# Altium footprint library PCBLibSynthe.PcbLib: 30 footprints (part 2 of 2)
Each footprint in its own frame and in the unit in brackets; x right, y up, seen from the top. Pads: shape width x height; smd on the part's side, far side on the other; paste and mask are expansions set on the pad; w line width, h text height; cw(c..) or ccw(c..) is an arc to the next point about the centre after c.
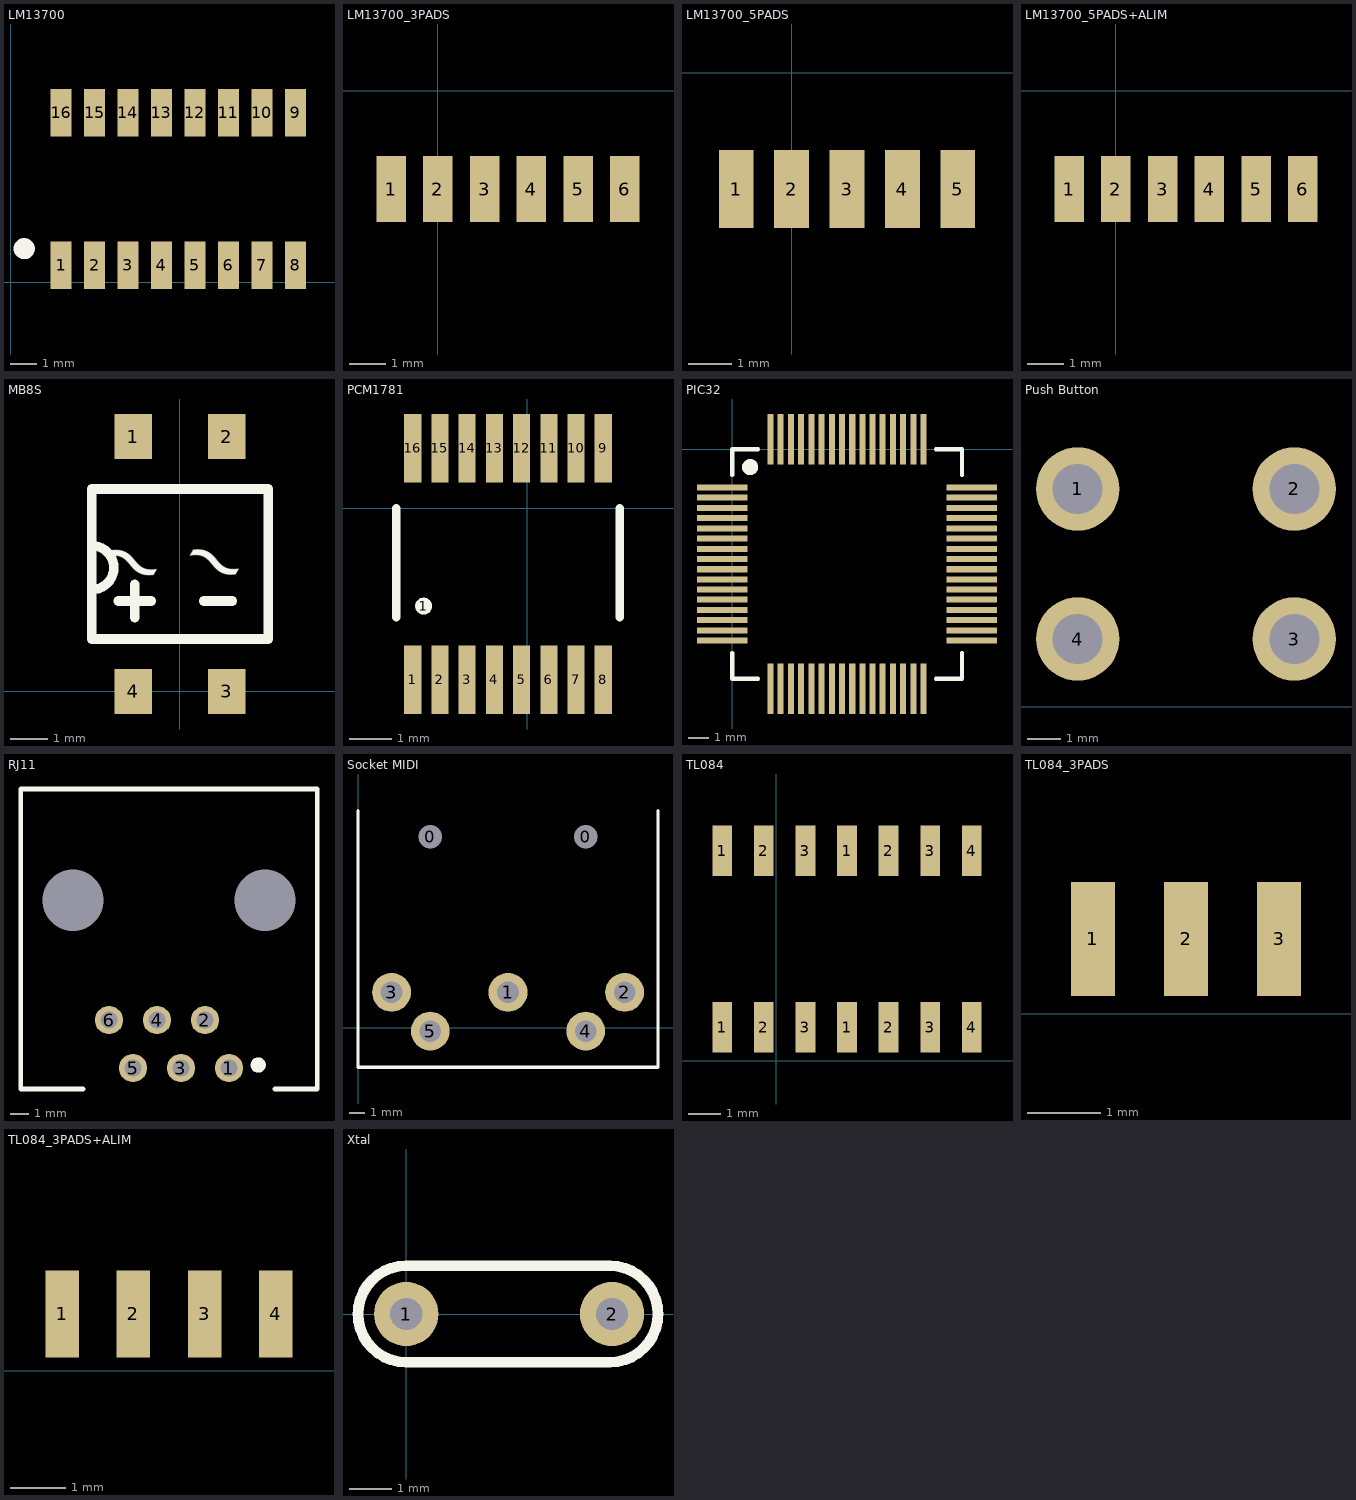
[diagram p1: the footprints below, top view; thin cyan lines are the x and y axes]

## LM13700 [mm]
pads (16):
  rect 0.8x1.8 smd: 1(1.905,0.635) 2(3.175,0.635) 3(4.445,0.635) 4(5.715,0.635) 5(6.985,0.635) 6(8.255,0.635) 7(9.525,0.635) 8(10.795,0.635) 9(10.795,6.435) 10(9.525,6.435) 11(8.255,6.435) 12(6.985,6.435) 13(5.715,6.435) 14(4.445,6.435) 15(3.175,6.435) 16(1.905,6.435)
Top Overlay:
  circle w0.4: c0.508,1.27 r0.2

## LM13700_3PADS [mm]
pads (6):
  rect 0.8x1.8 smd: 1(-1.27,-2.667) 2(0,-2.667) 3(1.27,-2.667) 4(2.54,-2.667) 5(3.81,-2.667) 6(5.08,-2.667)

## LM13700_5PADS [mm]
pads (5):
  rect 0.8x1.8 smd: 1(-1.27,-2.667) 2(0,-2.667) 3(1.27,-2.667) 4(2.54,-2.667) 5(3.81,-2.667)

## LM13700_5PADS+ALIM [mm]
pads (6):
  rect 0.8x1.8 smd: 1(-1.27,-2.667) 2(0,-2.667) 3(1.27,-2.667) 4(2.54,-2.667) 5(3.81,-2.667) 6(5.08,-2.667)

## MB8S [mm]
pads (4):
  rect 1x1.2 smd: 1(-1.25,6.8) 2(1.25,6.8) 3(1.25,0) 4(-1.25,0)
Top Overlay:
  lines w0.254: -2.35,2.716 ccw(c-2.35,3.302) -1.764,3.302 ccw(c-2.35,3.302) -2.35,3.888 ; -1.651,2.413 -0.762,2.413 -1.206,2.413 ; -1.206,1.968 -1.206,2.413 ; -1.206,2.857 -1.206,2.413 ; 0.635,2.413 1.397,2.413 ; -2.35,1.4 -2.35,5.4 0,5.4 2.35,5.4 2.35,1.4 0,1.4 -2.35,1.4
  text "~" at -0.161,3.311 h1.52
  text "~" at -2.35,3.302 h1.52

## PCM1781 [mm] "DAC"
pads (17):
  rect 0.4x1.6 smd mask+0.05: 1(-2.667,-4.003) 2(-2.032,-4.003) 3(-1.397,-4.003) 4(-0.762,-4.003) 5(-0.127,-4.003) 6(0.508,-4.003) 7(1.143,-4.003) 8(1.778,-4.003) 9(1.778,1.397) 10(1.143,1.397) 11(0.508,1.397) 12(-0.127,1.397) 13(-0.762,1.397) 14(-1.397,1.397) 15(-2.032,1.397) 16(-2.667,1.397)
  round 0.4 on Top Overlay: 1(-2.413,-2.286)
Top Overlay:
  lines w0.2: -3.048,-2.54 -3.048,0 ; 2.159,-2.54 2.159,0

## PIC32 [mm] "PIC32MX575F512H"
pads (64):
  rect 2.5x0.3 smd paste+0 mask+0.05: 1(-0.5,-1.905) 2(-0.5,-2.405) 3(-0.5,-2.913) 4(-0.5,-3.413) 5(-0.5,-3.929) 6(-0.5,-4.429) 7(-0.5,-4.945) 8(-0.5,-5.445) 9(-0.5,-5.961) 10(-0.5,-6.461) 11(-0.5,-6.969) 12(-0.5,-7.469) 13(-0.5,-7.985) 14(-0.5,-8.485) 15(-0.5,-9.001) 16(-0.5,-9.501) 33(11.9,-9.501) 34(11.9,-9.001) 35(11.9,-8.485) 36(11.9,-7.985) 37(11.9,-7.469) 38(11.9,-6.969) 39(11.9,-6.461) 40(11.9,-5.961) 41(11.9,-5.445) 42(11.9,-4.945) 43(11.9,-4.429) 44(11.9,-3.929) 45(11.9,-3.413) 46(11.9,-2.913) 47(11.9,-2.405) 48(11.9,-1.905)
  rect 0.3x2.5 smd paste+0 mask+0.05: 17(1.905,-11.9) 18(2.405,-11.9) 19(2.913,-11.9) 20(3.413,-11.9) 21(3.929,-11.9) 22(4.429,-11.9) 23(4.945,-11.9) 24(5.445,-11.9) 25(5.961,-11.9) 26(6.461,-11.9) 27(6.969,-11.9) 28(7.469,-11.9) 29(7.985,-11.9) 30(8.485,-11.9) 31(9.001,-11.9) 32(9.501,-11.9) 49(9.501,0.5) 50(9.001,0.5) 51(8.485,0.5) 52(7.985,0.5) 53(7.469,0.5) 54(6.969,0.5) 55(6.461,0.5) 56(5.961,0.5) 57(5.445,0.5) 58(4.945,0.5) 59(4.429,0.5) 60(3.929,0.5) 61(3.413,0.5) 62(2.913,0.5) 63(2.405,0.5) 64(1.905,0.5)
Top Overlay:
  circle w0.4: c0.889,-0.889 r0.2
  lines w0.2: 0,-10.13 0,-11.4 1.27,-11.4 ; 0,-1.27 0,0 1.27,0 ; 10.13,-11.4 11.4,-11.4 11.4,-10.13 ; 10.13,0 11.4,0 11.4,-1.27

## Push Button [mm]
pads (4):
  round 2.5 hole 1.5: 1(1.905,6.532) 2(8.405,6.532) 3(8.405,2.032) 4(1.905,2.032)

## RJ11 [mm] "RJ11 Socket"
pads (8):
  round 0 hole 3.25 mask+0: 0(5.818,13.556) 0(15.978,13.556)
  round 1.5 hole 0.9: 1(14.073,4.666) 2(12.803,7.206) 3(11.533,4.666) 4(10.263,7.206) 5(8.993,4.666) 6(7.723,7.206)
Top Overlay:
  circle w0.4: c15.621,4.826 r0.2
  lines w0.254: 6.35,3.556 3.048,3.556 3.048,19.436 18.748,19.436 18.748,3.556 16.51,3.556

## Socket MIDI [mm] "Midi"
pads (7):
  round 1.4 hole 1.5 mask+0: 0(4.652,12.286) 0(14.652,12.286)
  round 2.5 hole 1.4: 1(9.652,2.286) 2(17.159,2.286) 3(2.159,2.286) 4(14.652,-0.214) 5(4.652,-0.214)
Top Overlay:
  lines w0.2: 0,13.97 0,-2.54 19.304,-2.54 19.304,13.97

## TL084 [mm] "Ampli-op"
pads (14):
  rect 0.6x1.55 smd: 1(-1.651,1.016) 1(-1.651,6.416) 1(2.159,1.016) 1(2.159,6.416) 2(-0.381,1.016) 2(-0.381,6.416) 2(3.429,1.016) 2(3.429,6.416) 3(0.889,1.016) 3(0.889,6.416) 3(4.699,1.016) 3(4.699,6.416) 4(5.969,1.016) 4(5.969,6.416)

## TL084_3PADS [mm] "Ampli-op"
pads (3):
  rect 0.6x1.55 smd: 1(2.159,1.016) 2(3.429,1.016) 3(4.699,1.016)

## TL084_3PADS+ALIM [mm] "Ampli-op"
pads (4):
  rect 0.6x1.55 smd: 1(2.159,1.016) 2(3.429,1.016) 3(4.699,1.016) 4(5.969,1.016)

## Xtal [mil]
pads (2):
  round 60 hole 30: 1(0,0) 2(192.13,0)
Top Overlay:
  lines w10: 0,-45 cw(c0,0) 0,45 190,45 cw(c190,0) 190,-45 0,-45